# Altium integrated library Silicon Labs Audio.IntLib: 141 symbols (part 5 of 7)
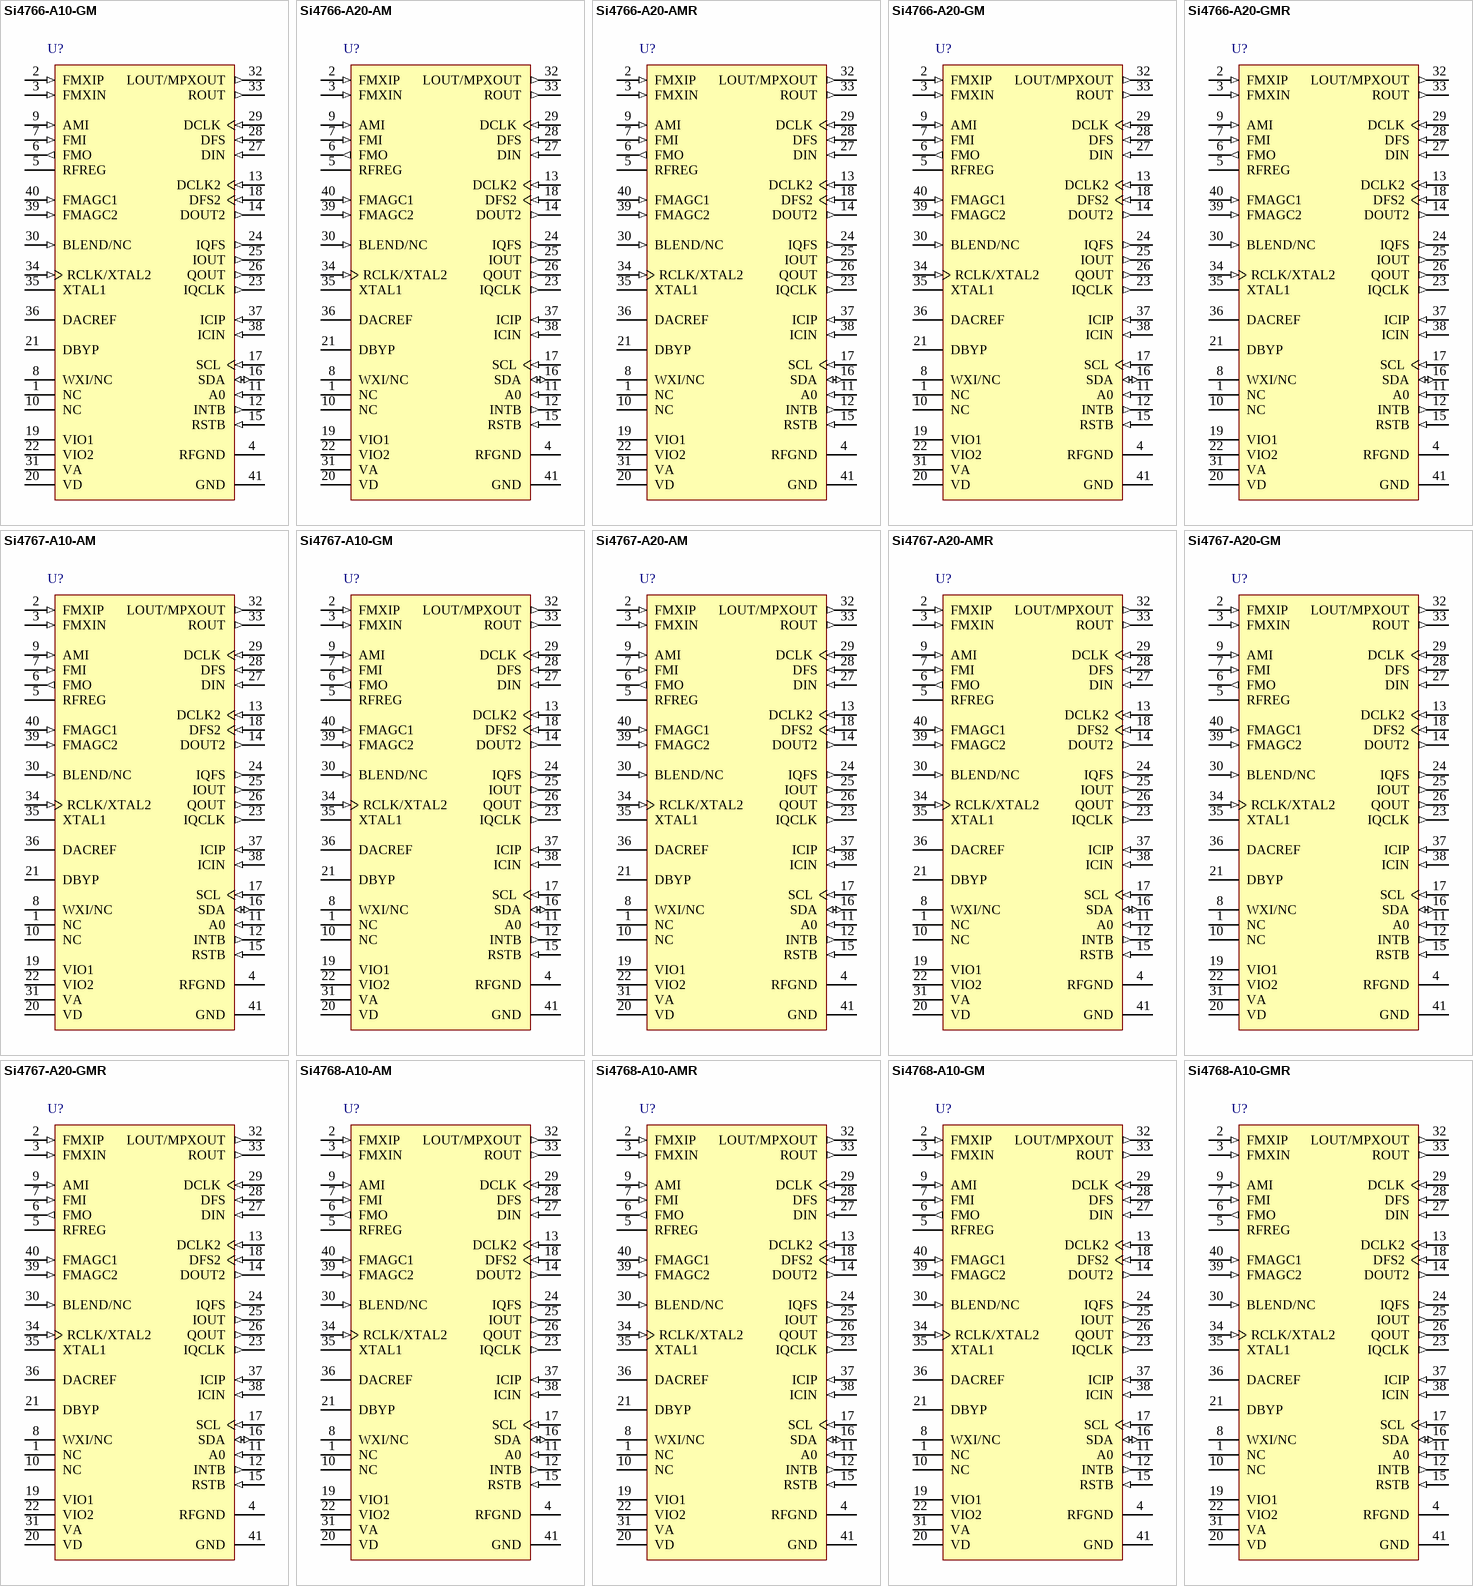
[diagram p11: symbols Si4766-A10-GM to Si4768-A10-GMR]

## Si4766-A20-GMR
designator U?
High-Performance Automotive AM / FM Radio Receiver and HD Radio Tuner, -40 to 85 degC, 40-pin QFN, Tape and Reel; Manufacturer: Silicon Labs; PartNumber: Si4766-A20-GMR; RDS Support: TRUE; Sub-Family: Automotive Tuners; PackageVersion: Rev. 1.3, 01/2012; PackageReference: QFN-40; PackageDescription: 40-Pin Quad-Flat No-Leads Package, Body 6 x 6 mm, Pitch 0.5 mm; Supplier 1: Digi-Key; Supplier Part Number 1: SI4766-A20-GMR-ND; Supplier 2: Mouser; Supplier Part Number 2: N/A; Packing: Tape and Reel; Mounting Technology: Surface Mount; Code_JEDEC: MO-220; Code_IPC: J-STD-020; ComponentLink1Description: Manufacturer URL; ComponentLink1URL: http://www.silabs.com/; ComponentLink2Description: Datasheet; ComponentLink2URL: http://www.silabs.com/Support Documents/TechnicalDocs/Si476x-short.pdf; ComponentLink3Description: Package Specification; ComponentLink3URL: http://www.silabs.com/Support%20Documents/TechnicalDocs/Si3452.pdf
footprint SLAB-QFN-40-4100x4100TP_A_N (QFN, 40-Leads, Body 6x6mm, Pitch 0.5mm, Thermal Pad 4.1X4.1mm, IPC Medium Density)
footprint SLAB-QFN-40-4100x4100TP_A_L (QFN, 40-Leads, Body 6x6mm, Pitch 0.5mm, Thermal Pad 4.1X4.1mm, IPC High Density)
footprint SLAB-QFN-40-4100x4100TP_A_M (QFN, 40-Leads, Body 6x6mm, Pitch 0.5mm, Thermal Pad 4.1X4.1mm, IPC Low Density)
pins: 1 NC, 2 FMXIP (in), 3 FMXIN (in), 4 RFGND (power), 5 RFREG (power), 6 FMO (out), 7 FMI (in), 8 WXI/NC, 9 AMI (in), 10 NC, 11 A0 (in), 12 INTB (out), 13 DCLK2 (in), 14 DOUT2 (out), 15 RSTB (in), 16 SDA (io), 17 SCL (in), 18 DFS2 (in), 19 VIO1 (power), 20 VD (power), 21 DBYP, 22 VIO2 (power), 23 IQCLK (out), 24 IQFS (out), 25 IOUT (out), 26 QOUT (out), 27 DIN (in), 28 DFS (in), 29 DCLK (in), 30 BLEND/NC (in), 31 VA (power), 32 LOUT/MPXOUT (out), 33 ROUT (out), 34 RCLK/XTAL2 (in), 35 XTAL1, 36 DACREF, 37 ICIP (in), 38 ICIN (in), 39 FMAGC2 (in), 40 FMAGC1 (in), 41 GND (power)

## Si4767-A10-AM
designator U?
High-Performance Automotive AM / FM Radio Receiver and HD Radio Tuner, -40 to 85 degC, 40-pin QFN, Tray; Manufacturer: Silicon Labs; PartNumber: Si4767-A10-AM; RDS Support: TRUE; Sub-Family: Automotive Tuners; PackageVersion: Rev. 1.3, 01/2012; PackageReference: QFN-40; PackageDescription: 40-Pin Quad-Flat No-Leads Package, Body 6 x 6 mm, Pitch 0.5 mm; Supplier 1: Digi-Key; Supplier Part Number 1: SI4767-A10-AM-ND; Supplier 2: Mouser; Supplier Part Number 2: N/A; Packing: Tray; Mounting Technology: Surface Mount; Code_JEDEC: MO-220; Code_IPC: J-STD-020; ComponentLink1Description: Manufacturer URL; ComponentLink1URL: http://www.silabs.com/; ComponentLink2Description: Datasheet; ComponentLink2URL: http://www.silabs.com/Support Documents/TechnicalDocs/Si476x-short.pdf; ComponentLink3Description: Package Specification; ComponentLink3URL: http://www.silabs.com/Support%20Documents/TechnicalDocs/Si3452.pdf
footprint SLAB-QFN-40-4100x4100TP_A_N (QFN, 40-Leads, Body 6x6mm, Pitch 0.5mm, Thermal Pad 4.1X4.1mm, IPC Medium Density)
footprint SLAB-QFN-40-4100x4100TP_A_L (QFN, 40-Leads, Body 6x6mm, Pitch 0.5mm, Thermal Pad 4.1X4.1mm, IPC High Density)
footprint SLAB-QFN-40-4100x4100TP_A_M (QFN, 40-Leads, Body 6x6mm, Pitch 0.5mm, Thermal Pad 4.1X4.1mm, IPC Low Density)
pins: 1 NC, 2 FMXIP (in), 3 FMXIN (in), 4 RFGND (power), 5 RFREG (power), 6 FMO (out), 7 FMI (in), 8 WXI/NC, 9 AMI (in), 10 NC, 11 A0 (in), 12 INTB (out), 13 DCLK2 (in), 14 DOUT2 (out), 15 RSTB (in), 16 SDA (io), 17 SCL (in), 18 DFS2 (in), 19 VIO1 (power), 20 VD (power), 21 DBYP, 22 VIO2 (power), 23 IQCLK (out), 24 IQFS (out), 25 IOUT (out), 26 QOUT (out), 27 DIN (in), 28 DFS (in), 29 DCLK (in), 30 BLEND/NC (in), 31 VA (power), 32 LOUT/MPXOUT (out), 33 ROUT (out), 34 RCLK/XTAL2 (in), 35 XTAL1, 36 DACREF, 37 ICIP (in), 38 ICIN (in), 39 FMAGC2 (in), 40 FMAGC1 (in), 41 GND (power)

## Si4767-A10-GM
designator U?
High-Performance Automotive AM / FM Radio Receiver and HD Radio Tuner, -40 to 85 degC, 40-pin QFN, Tray; Manufacturer: Silicon Labs; PartNumber: Si4767-A10-GM; RDS Support: TRUE; Sub-Family: Automotive Tuners; PackageVersion: Rev. 1.3, 01/2012; PackageReference: QFN-40; PackageDescription: 40-Pin Quad-Flat No-Leads Package, Body 6 x 6 mm, Pitch 0.5 mm; Supplier 1: Digi-Key; Supplier Part Number 1: SI4767-A10-GM-ND; Supplier 2: Mouser; Supplier Part Number 2: N/A; Packing: Tray; Mounting Technology: Surface Mount; Code_JEDEC: MO-220; Code_IPC: J-STD-020; ComponentLink1Description: Manufacturer URL; ComponentLink1URL: http://www.silabs.com/; ComponentLink2Description: Datasheet; ComponentLink2URL: http://www.silabs.com/Support Documents/TechnicalDocs/Si476x-short.pdf; ComponentLink3Description: Package Specification; ComponentLink3URL: http://www.silabs.com/Support%20Documents/TechnicalDocs/Si3452.pdf
footprint SLAB-QFN-40-4100x4100TP_A_N (QFN, 40-Leads, Body 6x6mm, Pitch 0.5mm, Thermal Pad 4.1X4.1mm, IPC Medium Density)
footprint SLAB-QFN-40-4100x4100TP_A_L (QFN, 40-Leads, Body 6x6mm, Pitch 0.5mm, Thermal Pad 4.1X4.1mm, IPC High Density)
footprint SLAB-QFN-40-4100x4100TP_A_M (QFN, 40-Leads, Body 6x6mm, Pitch 0.5mm, Thermal Pad 4.1X4.1mm, IPC Low Density)
pins: 1 NC, 2 FMXIP (in), 3 FMXIN (in), 4 RFGND (power), 5 RFREG (power), 6 FMO (out), 7 FMI (in), 8 WXI/NC, 9 AMI (in), 10 NC, 11 A0 (in), 12 INTB (out), 13 DCLK2 (in), 14 DOUT2 (out), 15 RSTB (in), 16 SDA (io), 17 SCL (in), 18 DFS2 (in), 19 VIO1 (power), 20 VD (power), 21 DBYP, 22 VIO2 (power), 23 IQCLK (out), 24 IQFS (out), 25 IOUT (out), 26 QOUT (out), 27 DIN (in), 28 DFS (in), 29 DCLK (in), 30 BLEND/NC (in), 31 VA (power), 32 LOUT/MPXOUT (out), 33 ROUT (out), 34 RCLK/XTAL2 (in), 35 XTAL1, 36 DACREF, 37 ICIP (in), 38 ICIN (in), 39 FMAGC2 (in), 40 FMAGC1 (in), 41 GND (power)

## Si4767-A20-AM
designator U?
High-Performance Automotive AM / FM Radio Receiver and HD Radio Tuner, -40 to 85 degC, 40-pin QFN, Tray; Manufacturer: Silicon Labs; PartNumber: Si4767-A20-AM; RDS Support: TRUE; Sub-Family: Automotive Tuners; PackageVersion: Rev. 1.3, 01/2012; PackageReference: QFN-40; PackageDescription: 40-Pin Quad-Flat No-Leads Package, Body 6 x 6 mm, Pitch 0.5 mm; Supplier 1: Digi-Key; Supplier Part Number 1: SI4767-A20-AM-ND; Supplier 2: Mouser; Supplier Part Number 2: N/A; Packing: Tray; Mounting Technology: Surface Mount; Code_JEDEC: MO-220; Code_IPC: J-STD-020; ComponentLink1Description: Manufacturer URL; ComponentLink1URL: http://www.silabs.com/; ComponentLink2Description: Datasheet; ComponentLink2URL: http://www.silabs.com/Support Documents/TechnicalDocs/Si476x-short.pdf; ComponentLink3Description: Package Specification; ComponentLink3URL: http://www.silabs.com/Support%20Documents/TechnicalDocs/Si3452.pdf
footprint SLAB-QFN-40-4100x4100TP_A_N (QFN, 40-Leads, Body 6x6mm, Pitch 0.5mm, Thermal Pad 4.1X4.1mm, IPC Medium Density)
footprint SLAB-QFN-40-4100x4100TP_A_L (QFN, 40-Leads, Body 6x6mm, Pitch 0.5mm, Thermal Pad 4.1X4.1mm, IPC High Density)
footprint SLAB-QFN-40-4100x4100TP_A_M (QFN, 40-Leads, Body 6x6mm, Pitch 0.5mm, Thermal Pad 4.1X4.1mm, IPC Low Density)
pins: 1 NC, 2 FMXIP (in), 3 FMXIN (in), 4 RFGND (power), 5 RFREG (power), 6 FMO (out), 7 FMI (in), 8 WXI/NC, 9 AMI (in), 10 NC, 11 A0 (in), 12 INTB (out), 13 DCLK2 (in), 14 DOUT2 (out), 15 RSTB (in), 16 SDA (io), 17 SCL (in), 18 DFS2 (in), 19 VIO1 (power), 20 VD (power), 21 DBYP, 22 VIO2 (power), 23 IQCLK (out), 24 IQFS (out), 25 IOUT (out), 26 QOUT (out), 27 DIN (in), 28 DFS (in), 29 DCLK (in), 30 BLEND/NC (in), 31 VA (power), 32 LOUT/MPXOUT (out), 33 ROUT (out), 34 RCLK/XTAL2 (in), 35 XTAL1, 36 DACREF, 37 ICIP (in), 38 ICIN (in), 39 FMAGC2 (in), 40 FMAGC1 (in), 41 GND (power)

## Si4767-A20-AMR
designator U?
High-Performance Automotive AM / FM Radio Receiver and HD Radio Tuner, -40 to 85 degC, 40-pin QFN, Tape and Reel; Manufacturer: Silicon Labs; PartNumber: Si4767-A20-AMR; RDS Support: TRUE; Sub-Family: Automotive Tuners; PackageVersion: Rev. 1.3, 01/2012; PackageReference: QFN-40; PackageDescription: 40-Pin Quad-Flat No-Leads Package, Body 6 x 6 mm, Pitch 0.5 mm; Supplier 1: Digi-Key; Supplier Part Number 1: SI4767-A20-AMR-ND; Supplier 2: Mouser; Supplier Part Number 2: N/A; Packing: Tape and Reel; Mounting Technology: Surface Mount; Code_JEDEC: MO-220; Code_IPC: J-STD-020; ComponentLink1Description: Manufacturer URL; ComponentLink1URL: http://www.silabs.com/; ComponentLink2Description: Datasheet; ComponentLink2URL: http://www.silabs.com/Support Documents/TechnicalDocs/Si476x-short.pdf; ComponentLink3Description: Package Specification; ComponentLink3URL: http://www.silabs.com/Support%20Documents/TechnicalDocs/Si3452.pdf
footprint SLAB-QFN-40-4100x4100TP_A_N (QFN, 40-Leads, Body 6x6mm, Pitch 0.5mm, Thermal Pad 4.1X4.1mm, IPC Medium Density)
footprint SLAB-QFN-40-4100x4100TP_A_L (QFN, 40-Leads, Body 6x6mm, Pitch 0.5mm, Thermal Pad 4.1X4.1mm, IPC High Density)
footprint SLAB-QFN-40-4100x4100TP_A_M (QFN, 40-Leads, Body 6x6mm, Pitch 0.5mm, Thermal Pad 4.1X4.1mm, IPC Low Density)
pins: 1 NC, 2 FMXIP (in), 3 FMXIN (in), 4 RFGND (power), 5 RFREG (power), 6 FMO (out), 7 FMI (in), 8 WXI/NC, 9 AMI (in), 10 NC, 11 A0 (in), 12 INTB (out), 13 DCLK2 (in), 14 DOUT2 (out), 15 RSTB (in), 16 SDA (io), 17 SCL (in), 18 DFS2 (in), 19 VIO1 (power), 20 VD (power), 21 DBYP, 22 VIO2 (power), 23 IQCLK (out), 24 IQFS (out), 25 IOUT (out), 26 QOUT (out), 27 DIN (in), 28 DFS (in), 29 DCLK (in), 30 BLEND/NC (in), 31 VA (power), 32 LOUT/MPXOUT (out), 33 ROUT (out), 34 RCLK/XTAL2 (in), 35 XTAL1, 36 DACREF, 37 ICIP (in), 38 ICIN (in), 39 FMAGC2 (in), 40 FMAGC1 (in), 41 GND (power)

## Si4767-A20-GM
designator U?
High-Performance Automotive AM / FM Radio Receiver and HD Radio Tuner, -40 to 85 degC, 40-pin QFN, Tray; Manufacturer: Silicon Labs; PartNumber: Si4767-A20-GM; RDS Support: TRUE; Sub-Family: Automotive Tuners; PackageVersion: Rev. 1.3, 01/2012; PackageReference: QFN-40; PackageDescription: 40-Pin Quad-Flat No-Leads Package, Body 6 x 6 mm, Pitch 0.5 mm; Supplier 1: Digi-Key; Supplier Part Number 1: SI4767-A20-GM-ND; Supplier 2: Mouser; Supplier Part Number 2: N/A; Packing: Tray; Mounting Technology: Surface Mount; Code_JEDEC: MO-220; Code_IPC: J-STD-020; ComponentLink1Description: Manufacturer URL; ComponentLink1URL: http://www.silabs.com/; ComponentLink2Description: Datasheet; ComponentLink2URL: http://www.silabs.com/Support Documents/TechnicalDocs/Si476x-short.pdf; ComponentLink3Description: Package Specification; ComponentLink3URL: http://www.silabs.com/Support%20Documents/TechnicalDocs/Si3452.pdf
footprint SLAB-QFN-40-4100x4100TP_A_N (QFN, 40-Leads, Body 6x6mm, Pitch 0.5mm, Thermal Pad 4.1X4.1mm, IPC Medium Density)
footprint SLAB-QFN-40-4100x4100TP_A_L (QFN, 40-Leads, Body 6x6mm, Pitch 0.5mm, Thermal Pad 4.1X4.1mm, IPC High Density)
footprint SLAB-QFN-40-4100x4100TP_A_M (QFN, 40-Leads, Body 6x6mm, Pitch 0.5mm, Thermal Pad 4.1X4.1mm, IPC Low Density)
pins: 1 NC, 2 FMXIP (in), 3 FMXIN (in), 4 RFGND (power), 5 RFREG (power), 6 FMO (out), 7 FMI (in), 8 WXI/NC, 9 AMI (in), 10 NC, 11 A0 (in), 12 INTB (out), 13 DCLK2 (in), 14 DOUT2 (out), 15 RSTB (in), 16 SDA (io), 17 SCL (in), 18 DFS2 (in), 19 VIO1 (power), 20 VD (power), 21 DBYP, 22 VIO2 (power), 23 IQCLK (out), 24 IQFS (out), 25 IOUT (out), 26 QOUT (out), 27 DIN (in), 28 DFS (in), 29 DCLK (in), 30 BLEND/NC (in), 31 VA (power), 32 LOUT/MPXOUT (out), 33 ROUT (out), 34 RCLK/XTAL2 (in), 35 XTAL1, 36 DACREF, 37 ICIP (in), 38 ICIN (in), 39 FMAGC2 (in), 40 FMAGC1 (in), 41 GND (power)

## Si4767-A20-GMR
designator U?
High-Performance Automotive AM / FM Radio Receiver and HD Radio Tuner, -40 to 85 degC, 40-pin QFN, Tape and Reel; Manufacturer: Silicon Labs; PartNumber: Si4767-A20-GMR; RDS Support: TRUE; Sub-Family: Automotive Tuners; PackageVersion: Rev. 1.3, 01/2012; PackageReference: QFN-40; PackageDescription: 40-Pin Quad-Flat No-Leads Package, Body 6 x 6 mm, Pitch 0.5 mm; Supplier 1: Digi-Key; Supplier Part Number 1: SI4767-A20-GMR-ND; Supplier 2: Mouser; Supplier Part Number 2: N/A; Packing: Tape and Reel; Mounting Technology: Surface Mount; Code_JEDEC: MO-220; Code_IPC: J-STD-020; ComponentLink1Description: Manufacturer URL; ComponentLink1URL: http://www.silabs.com/; ComponentLink2Description: Datasheet; ComponentLink2URL: http://www.silabs.com/Support Documents/TechnicalDocs/Si476x-short.pdf; ComponentLink3Description: Package Specification; ComponentLink3URL: http://www.silabs.com/Support%20Documents/TechnicalDocs/Si3452.pdf
footprint SLAB-QFN-40-4100x4100TP_A_N (QFN, 40-Leads, Body 6x6mm, Pitch 0.5mm, Thermal Pad 4.1X4.1mm, IPC Medium Density)
footprint SLAB-QFN-40-4100x4100TP_A_L (QFN, 40-Leads, Body 6x6mm, Pitch 0.5mm, Thermal Pad 4.1X4.1mm, IPC High Density)
footprint SLAB-QFN-40-4100x4100TP_A_M (QFN, 40-Leads, Body 6x6mm, Pitch 0.5mm, Thermal Pad 4.1X4.1mm, IPC Low Density)
pins: 1 NC, 2 FMXIP (in), 3 FMXIN (in), 4 RFGND (power), 5 RFREG (power), 6 FMO (out), 7 FMI (in), 8 WXI/NC, 9 AMI (in), 10 NC, 11 A0 (in), 12 INTB (out), 13 DCLK2 (in), 14 DOUT2 (out), 15 RSTB (in), 16 SDA (io), 17 SCL (in), 18 DFS2 (in), 19 VIO1 (power), 20 VD (power), 21 DBYP, 22 VIO2 (power), 23 IQCLK (out), 24 IQFS (out), 25 IOUT (out), 26 QOUT (out), 27 DIN (in), 28 DFS (in), 29 DCLK (in), 30 BLEND/NC (in), 31 VA (power), 32 LOUT/MPXOUT (out), 33 ROUT (out), 34 RCLK/XTAL2 (in), 35 XTAL1, 36 DACREF, 37 ICIP (in), 38 ICIN (in), 39 FMAGC2 (in), 40 FMAGC1 (in), 41 GND (power)

## Si4768-A10-AM
designator U?
High-Performance Automotive AM / FM Radio Receiver and HD Radio Tuner, -40 to 85 degC, 40-pin QFN, Tray; Manufacturer: Silicon Labs; PartNumber: Si4768-A10-AM; RDS Support: TRUE; Sub-Family: Automotive Tuners; PackageVersion: Rev. 1.3, 01/2012; PackageReference: QFN-40; PackageDescription: 40-Pin Quad-Flat No-Leads Package, Body 6 x 6 mm, Pitch 0.5 mm; Supplier 1: Digi-Key; Supplier Part Number 1: SI4768-A10-AM-ND; Supplier 2: Mouser; Supplier Part Number 2: N/A; Packing: Tray; Mounting Technology: Surface Mount; Code_JEDEC: MO-220; Code_IPC: J-STD-020; ComponentLink1Description: Manufacturer URL; ComponentLink1URL: http://www.silabs.com/; ComponentLink2Description: Datasheet; ComponentLink2URL: http://www.silabs.com/Support Documents/TechnicalDocs/Si476x-short.pdf; ComponentLink3Description: Package Specification; ComponentLink3URL: http://www.silabs.com/Support%20Documents/TechnicalDocs/Si3452.pdf
footprint SLAB-QFN-40-4100x4100TP_A_N (QFN, 40-Leads, Body 6x6mm, Pitch 0.5mm, Thermal Pad 4.1X4.1mm, IPC Medium Density)
footprint SLAB-QFN-40-4100x4100TP_A_L (QFN, 40-Leads, Body 6x6mm, Pitch 0.5mm, Thermal Pad 4.1X4.1mm, IPC High Density)
footprint SLAB-QFN-40-4100x4100TP_A_M (QFN, 40-Leads, Body 6x6mm, Pitch 0.5mm, Thermal Pad 4.1X4.1mm, IPC Low Density)
pins: 1 NC, 2 FMXIP (in), 3 FMXIN (in), 4 RFGND (power), 5 RFREG (power), 6 FMO (out), 7 FMI (in), 8 WXI/NC, 9 AMI (in), 10 NC, 11 A0 (in), 12 INTB (out), 13 DCLK2 (in), 14 DOUT2 (out), 15 RSTB (in), 16 SDA (io), 17 SCL (in), 18 DFS2 (in), 19 VIO1 (power), 20 VD (power), 21 DBYP, 22 VIO2 (power), 23 IQCLK (out), 24 IQFS (out), 25 IOUT (out), 26 QOUT (out), 27 DIN (in), 28 DFS (in), 29 DCLK (in), 30 BLEND/NC (in), 31 VA (power), 32 LOUT/MPXOUT (out), 33 ROUT (out), 34 RCLK/XTAL2 (in), 35 XTAL1, 36 DACREF, 37 ICIP (in), 38 ICIN (in), 39 FMAGC2 (in), 40 FMAGC1 (in), 41 GND (power)

## Si4768-A10-AMR
designator U?
High-Performance Automotive AM / FM Radio Receiver and HD Radio Tuner, -40 to 85 degC, 40-pin QFN, Tape and Reel; Manufacturer: Silicon Labs; PartNumber: Si4768-A10-AMR; RDS Support: TRUE; Sub-Family: Automotive Tuners; PackageVersion: Rev. 1.3, 01/2012; PackageReference: QFN-40; PackageDescription: 40-Pin Quad-Flat No-Leads Package, Body 6 x 6 mm, Pitch 0.5 mm; Supplier 1: Digi-Key; Supplier Part Number 1: SI4768-A10-AMR-ND; Supplier 2: Mouser; Supplier Part Number 2: N/A; Packing: Tape and Reel; Mounting Technology: Surface Mount; Code_JEDEC: MO-220; Code_IPC: J-STD-020; ComponentLink1Description: Manufacturer URL; ComponentLink1URL: http://www.silabs.com/; ComponentLink2Description: Datasheet; ComponentLink2URL: http://www.silabs.com/Support Documents/TechnicalDocs/Si476x-short.pdf; ComponentLink3Description: Package Specification; ComponentLink3URL: http://www.silabs.com/Support%20Documents/TechnicalDocs/Si3452.pdf
footprint SLAB-QFN-40-4100x4100TP_A_N (QFN, 40-Leads, Body 6x6mm, Pitch 0.5mm, Thermal Pad 4.1X4.1mm, IPC Medium Density)
footprint SLAB-QFN-40-4100x4100TP_A_L (QFN, 40-Leads, Body 6x6mm, Pitch 0.5mm, Thermal Pad 4.1X4.1mm, IPC High Density)
footprint SLAB-QFN-40-4100x4100TP_A_M (QFN, 40-Leads, Body 6x6mm, Pitch 0.5mm, Thermal Pad 4.1X4.1mm, IPC Low Density)
pins: 1 NC, 2 FMXIP (in), 3 FMXIN (in), 4 RFGND (power), 5 RFREG (power), 6 FMO (out), 7 FMI (in), 8 WXI/NC, 9 AMI (in), 10 NC, 11 A0 (in), 12 INTB (out), 13 DCLK2 (in), 14 DOUT2 (out), 15 RSTB (in), 16 SDA (io), 17 SCL (in), 18 DFS2 (in), 19 VIO1 (power), 20 VD (power), 21 DBYP, 22 VIO2 (power), 23 IQCLK (out), 24 IQFS (out), 25 IOUT (out), 26 QOUT (out), 27 DIN (in), 28 DFS (in), 29 DCLK (in), 30 BLEND/NC (in), 31 VA (power), 32 LOUT/MPXOUT (out), 33 ROUT (out), 34 RCLK/XTAL2 (in), 35 XTAL1, 36 DACREF, 37 ICIP (in), 38 ICIN (in), 39 FMAGC2 (in), 40 FMAGC1 (in), 41 GND (power)

## Si4768-A10-GM
designator U?
High-Performance Automotive AM / FM Radio Receiver and HD Radio Tuner, -40 to 85 degC, 40-pin QFN, Tray; Manufacturer: Silicon Labs; PartNumber: Si4768-A10-GM; RDS Support: TRUE; Sub-Family: Automotive Tuners; PackageVersion: Rev. 1.3, 01/2012; PackageReference: QFN-40; PackageDescription: 40-Pin Quad-Flat No-Leads Package, Body 6 x 6 mm, Pitch 0.5 mm; Supplier 1: Digi-Key; Supplier Part Number 1: SI4768-A10-GM-ND; Supplier 2: Mouser; Supplier Part Number 2: N/A; Packing: Tray; Mounting Technology: Surface Mount; Code_JEDEC: MO-220; Code_IPC: J-STD-020; ComponentLink1Description: Manufacturer URL; ComponentLink1URL: http://www.silabs.com/; ComponentLink2Description: Datasheet; ComponentLink2URL: http://www.silabs.com/Support Documents/TechnicalDocs/Si476x-short.pdf; ComponentLink3Description: Package Specification; ComponentLink3URL: http://www.silabs.com/Support%20Documents/TechnicalDocs/Si3452.pdf
footprint SLAB-QFN-40-4100x4100TP_A_N (QFN, 40-Leads, Body 6x6mm, Pitch 0.5mm, Thermal Pad 4.1X4.1mm, IPC Medium Density)
footprint SLAB-QFN-40-4100x4100TP_A_L (QFN, 40-Leads, Body 6x6mm, Pitch 0.5mm, Thermal Pad 4.1X4.1mm, IPC High Density)
footprint SLAB-QFN-40-4100x4100TP_A_M (QFN, 40-Leads, Body 6x6mm, Pitch 0.5mm, Thermal Pad 4.1X4.1mm, IPC Low Density)
pins: 1 NC, 2 FMXIP (in), 3 FMXIN (in), 4 RFGND (power), 5 RFREG (power), 6 FMO (out), 7 FMI (in), 8 WXI/NC, 9 AMI (in), 10 NC, 11 A0 (in), 12 INTB (out), 13 DCLK2 (in), 14 DOUT2 (out), 15 RSTB (in), 16 SDA (io), 17 SCL (in), 18 DFS2 (in), 19 VIO1 (power), 20 VD (power), 21 DBYP, 22 VIO2 (power), 23 IQCLK (out), 24 IQFS (out), 25 IOUT (out), 26 QOUT (out), 27 DIN (in), 28 DFS (in), 29 DCLK (in), 30 BLEND/NC (in), 31 VA (power), 32 LOUT/MPXOUT (out), 33 ROUT (out), 34 RCLK/XTAL2 (in), 35 XTAL1, 36 DACREF, 37 ICIP (in), 38 ICIN (in), 39 FMAGC2 (in), 40 FMAGC1 (in), 41 GND (power)

## Si4768-A10-GMR
designator U?
High-Performance Automotive AM / FM Radio Receiver and HD Radio Tuner, -40 to 85 degC, 40-pin QFN, Tape and Reel; Manufacturer: Silicon Labs; PartNumber: Si4768-A10-GMR; RDS Support: TRUE; Sub-Family: Automotive Tuners; PackageVersion: Rev. 1.3, 01/2012; PackageReference: QFN-40; PackageDescription: 40-Pin Quad-Flat No-Leads Package, Body 6 x 6 mm, Pitch 0.5 mm; Supplier 1: Digi-Key; Supplier Part Number 1: SI4768-A10-GMR-ND; Supplier 2: Mouser; Supplier Part Number 2: N/A; Packing: Tape and Reel; Mounting Technology: Surface Mount; Code_JEDEC: MO-220; Code_IPC: J-STD-020; ComponentLink1Description: Manufacturer URL; ComponentLink1URL: http://www.silabs.com/; ComponentLink2Description: Datasheet; ComponentLink2URL: http://www.silabs.com/Support Documents/TechnicalDocs/Si476x-short.pdf; ComponentLink3Description: Package Specification; ComponentLink3URL: http://www.silabs.com/Support%20Documents/TechnicalDocs/Si3452.pdf
footprint SLAB-QFN-40-4100x4100TP_A_N (QFN, 40-Leads, Body 6x6mm, Pitch 0.5mm, Thermal Pad 4.1X4.1mm, IPC Medium Density)
footprint SLAB-QFN-40-4100x4100TP_A_L (QFN, 40-Leads, Body 6x6mm, Pitch 0.5mm, Thermal Pad 4.1X4.1mm, IPC High Density)
footprint SLAB-QFN-40-4100x4100TP_A_M (QFN, 40-Leads, Body 6x6mm, Pitch 0.5mm, Thermal Pad 4.1X4.1mm, IPC Low Density)
pins: 1 NC, 2 FMXIP (in), 3 FMXIN (in), 4 RFGND (power), 5 RFREG (power), 6 FMO (out), 7 FMI (in), 8 WXI/NC, 9 AMI (in), 10 NC, 11 A0 (in), 12 INTB (out), 13 DCLK2 (in), 14 DOUT2 (out), 15 RSTB (in), 16 SDA (io), 17 SCL (in), 18 DFS2 (in), 19 VIO1 (power), 20 VD (power), 21 DBYP, 22 VIO2 (power), 23 IQCLK (out), 24 IQFS (out), 25 IOUT (out), 26 QOUT (out), 27 DIN (in), 28 DFS (in), 29 DCLK (in), 30 BLEND/NC (in), 31 VA (power), 32 LOUT/MPXOUT (out), 33 ROUT (out), 34 RCLK/XTAL2 (in), 35 XTAL1, 36 DACREF, 37 ICIP (in), 38 ICIN (in), 39 FMAGC2 (in), 40 FMAGC1 (in), 41 GND (power)

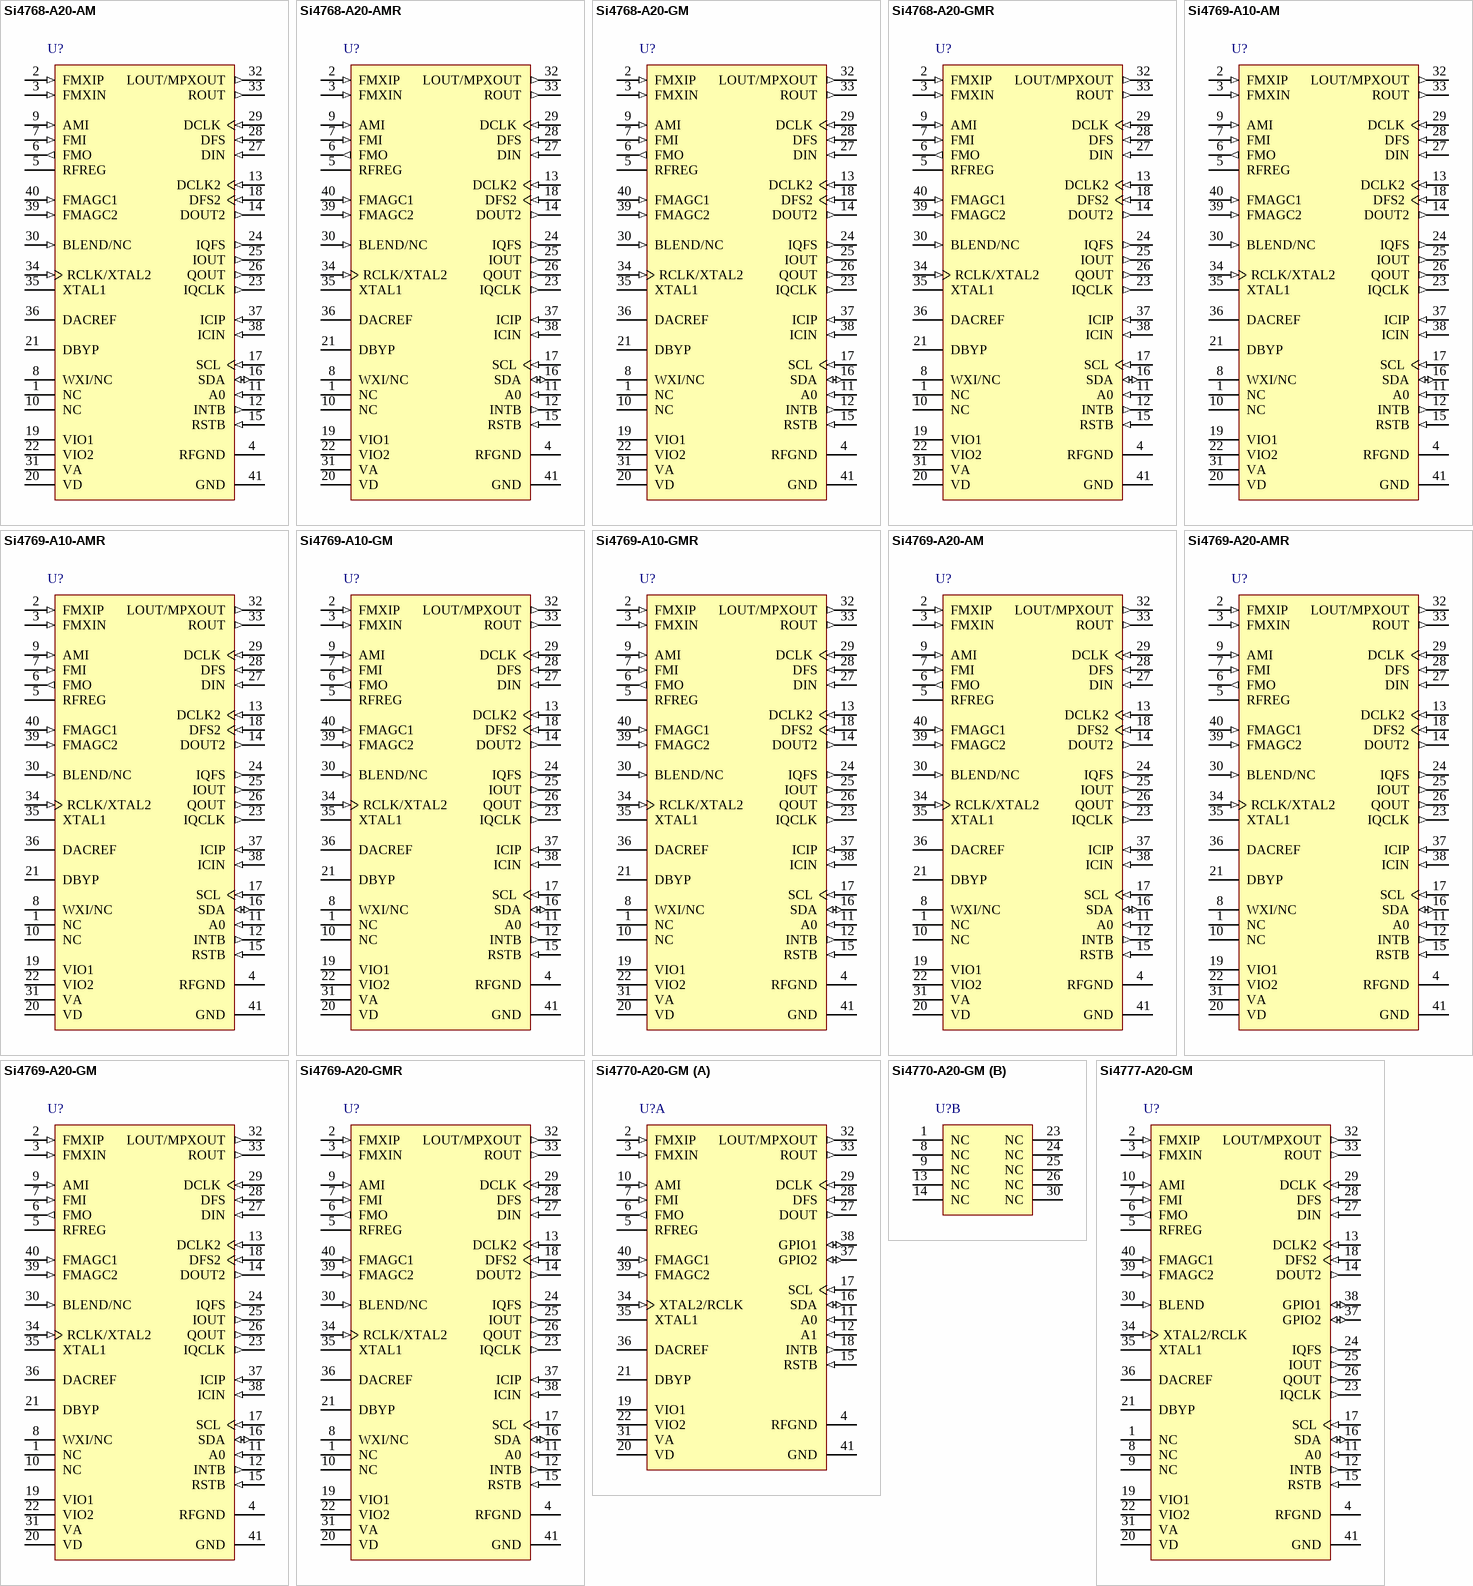
[diagram p6: symbols Si4768-A20-AM to Si4777-A20-GM]

## Si4768-A20-AM
designator U?
High-Performance Automotive AM / FM Radio Receiver and HD Radio Tuner, -40 to 85 degC, 40-pin QFN, Tray; Manufacturer: Silicon Labs; PartNumber: Si4768-A20-AM; RDS Support: TRUE; Sub-Family: Automotive Tuners; PackageVersion: Rev. 1.3, 01/2012; PackageReference: QFN-40; PackageDescription: 40-Pin Quad-Flat No-Leads Package, Body 6 x 6 mm, Pitch 0.5 mm; Supplier 1: Digi-Key; Supplier Part Number 1: SI4768-A20-AM-ND; Supplier 2: Mouser; Supplier Part Number 2: N/A; Packing: Tray; Mounting Technology: Surface Mount; Code_JEDEC: MO-220; Code_IPC: J-STD-020; ComponentLink1Description: Manufacturer URL; ComponentLink1URL: http://www.silabs.com/; ComponentLink2Description: Datasheet; ComponentLink2URL: http://www.silabs.com/Support Documents/TechnicalDocs/Si476x-short.pdf; ComponentLink3Description: Package Specification; ComponentLink3URL: http://www.silabs.com/Support%20Documents/TechnicalDocs/Si3452.pdf
footprint SLAB-QFN-40-4100x4100TP_A_N (QFN, 40-Leads, Body 6x6mm, Pitch 0.5mm, Thermal Pad 4.1X4.1mm, IPC Medium Density)
footprint SLAB-QFN-40-4100x4100TP_A_L (QFN, 40-Leads, Body 6x6mm, Pitch 0.5mm, Thermal Pad 4.1X4.1mm, IPC High Density)
footprint SLAB-QFN-40-4100x4100TP_A_M (QFN, 40-Leads, Body 6x6mm, Pitch 0.5mm, Thermal Pad 4.1X4.1mm, IPC Low Density)
pins: 1 NC, 2 FMXIP (in), 3 FMXIN (in), 4 RFGND (power), 5 RFREG (power), 6 FMO (out), 7 FMI (in), 8 WXI/NC, 9 AMI (in), 10 NC, 11 A0 (in), 12 INTB (out), 13 DCLK2 (in), 14 DOUT2 (out), 15 RSTB (in), 16 SDA (io), 17 SCL (in), 18 DFS2 (in), 19 VIO1 (power), 20 VD (power), 21 DBYP, 22 VIO2 (power), 23 IQCLK (out), 24 IQFS (out), 25 IOUT (out), 26 QOUT (out), 27 DIN (in), 28 DFS (in), 29 DCLK (in), 30 BLEND/NC (in), 31 VA (power), 32 LOUT/MPXOUT (out), 33 ROUT (out), 34 RCLK/XTAL2 (in), 35 XTAL1, 36 DACREF, 37 ICIP (in), 38 ICIN (in), 39 FMAGC2 (in), 40 FMAGC1 (in), 41 GND (power)

## Si4768-A20-AMR
designator U?
High-Performance Automotive AM / FM Radio Receiver and HD Radio Tuner, -40 to 85 degC, 40-pin QFN, Tape and Reel; Manufacturer: Silicon Labs; PartNumber: Si4768-A20-AMR; RDS Support: TRUE; Sub-Family: Automotive Tuners; PackageVersion: Rev. 1.3, 01/2012; PackageReference: QFN-40; PackageDescription: 40-Pin Quad-Flat No-Leads Package, Body 6 x 6 mm, Pitch 0.5 mm; Supplier 1: Digi-Key; Supplier Part Number 1: SI4768-A20-AMR-ND; Packing: Tape and Reel; Mounting Technology: Surface Mount; Code_JEDEC: MO-220; Code_IPC: J-STD-020; ComponentLink1Description: Manufacturer URL; ComponentLink1URL: http://www.silabs.com/; ComponentLink2Description: Datasheet; ComponentLink2URL: http://www.silabs.com/Support Documents/TechnicalDocs/Si476x-short.pdf; ComponentLink3Description: Package Specification; ComponentLink3URL: http://www.silabs.com/Support%20Documents/TechnicalDocs/Si3452.pdf
footprint SLAB-QFN-40-4100x4100TP_A_N (QFN, 40-Leads, Body 6x6mm, Pitch 0.5mm, Thermal Pad 4.1X4.1mm, IPC Medium Density)
footprint SLAB-QFN-40-4100x4100TP_A_L (QFN, 40-Leads, Body 6x6mm, Pitch 0.5mm, Thermal Pad 4.1X4.1mm, IPC High Density)
footprint SLAB-QFN-40-4100x4100TP_A_M (QFN, 40-Leads, Body 6x6mm, Pitch 0.5mm, Thermal Pad 4.1X4.1mm, IPC Low Density)
pins: 1 NC, 2 FMXIP (in), 3 FMXIN (in), 4 RFGND (power), 5 RFREG (power), 6 FMO (out), 7 FMI (in), 8 WXI/NC, 9 AMI (in), 10 NC, 11 A0 (in), 12 INTB (out), 13 DCLK2 (in), 14 DOUT2 (out), 15 RSTB (in), 16 SDA (io), 17 SCL (in), 18 DFS2 (in), 19 VIO1 (power), 20 VD (power), 21 DBYP, 22 VIO2 (power), 23 IQCLK (out), 24 IQFS (out), 25 IOUT (out), 26 QOUT (out), 27 DIN (in), 28 DFS (in), 29 DCLK (in), 30 BLEND/NC (in), 31 VA (power), 32 LOUT/MPXOUT (out), 33 ROUT (out), 34 RCLK/XTAL2 (in), 35 XTAL1, 36 DACREF, 37 ICIP (in), 38 ICIN (in), 39 FMAGC2 (in), 40 FMAGC1 (in), 41 GND (power)

## Si4768-A20-GM
designator U?
High-Performance Automotive AM / FM Radio Receiver and HD Radio Tuner, -40 to 85 degC, 40-pin QFN, Tray; Manufacturer: Silicon Labs; PartNumber: Si4768-A20-GM; RDS Support: TRUE; Sub-Family: Automotive Tuners; PackageVersion: Rev. 1.3, 01/2012; PackageReference: QFN-40; PackageDescription: 40-Pin Quad-Flat No-Leads Package, Body 6 x 6 mm, Pitch 0.5 mm; Supplier 1: Digi-Key; Supplier Part Number 1: SI4768-A20-GM-ND; Supplier 2: Mouser; Supplier Part Number 2: N/A; Packing: Tray; Mounting Technology: Surface Mount; Code_JEDEC: MO-220; Code_IPC: J-STD-020; ComponentLink1Description: Manufacturer URL; ComponentLink1URL: http://www.silabs.com/; ComponentLink2Description: Datasheet; ComponentLink2URL: http://www.silabs.com/Support Documents/TechnicalDocs/Si476x-short.pdf; ComponentLink3Description: Package Specification; ComponentLink3URL: http://www.silabs.com/Support%20Documents/TechnicalDocs/Si3452.pdf
footprint SLAB-QFN-40-4100x4100TP_A_N (QFN, 40-Leads, Body 6x6mm, Pitch 0.5mm, Thermal Pad 4.1X4.1mm, IPC Medium Density)
footprint SLAB-QFN-40-4100x4100TP_A_L (QFN, 40-Leads, Body 6x6mm, Pitch 0.5mm, Thermal Pad 4.1X4.1mm, IPC High Density)
footprint SLAB-QFN-40-4100x4100TP_A_M (QFN, 40-Leads, Body 6x6mm, Pitch 0.5mm, Thermal Pad 4.1X4.1mm, IPC Low Density)
pins: 1 NC, 2 FMXIP (in), 3 FMXIN (in), 4 RFGND (power), 5 RFREG (power), 6 FMO (out), 7 FMI (in), 8 WXI/NC, 9 AMI (in), 10 NC, 11 A0 (in), 12 INTB (out), 13 DCLK2 (in), 14 DOUT2 (out), 15 RSTB (in), 16 SDA (io), 17 SCL (in), 18 DFS2 (in), 19 VIO1 (power), 20 VD (power), 21 DBYP, 22 VIO2 (power), 23 IQCLK (out), 24 IQFS (out), 25 IOUT (out), 26 QOUT (out), 27 DIN (in), 28 DFS (in), 29 DCLK (in), 30 BLEND/NC (in), 31 VA (power), 32 LOUT/MPXOUT (out), 33 ROUT (out), 34 RCLK/XTAL2 (in), 35 XTAL1, 36 DACREF, 37 ICIP (in), 38 ICIN (in), 39 FMAGC2 (in), 40 FMAGC1 (in), 41 GND (power)

## Si4768-A20-GMR
designator U?
High-Performance Automotive AM / FM Radio Receiver and HD Radio Tuner, -40 to 85 degC, 40-pin QFN, Tape and Reel; Manufacturer: Silicon Labs; PartNumber: Si4768-A20-GMR; RDS Support: TRUE; Sub-Family: Automotive Tuners; PackageVersion: Rev. 1.3, 01/2012; PackageReference: QFN-40; PackageDescription: 40-Pin Quad-Flat No-Leads Package, Body 6 x 6 mm, Pitch 0.5 mm; Supplier 1: Digi-Key; Supplier Part Number 1: SI4768-A20-GMR-ND; Packing: Tape and Reel; Mounting Technology: Surface Mount; Code_JEDEC: MO-220; Code_IPC: J-STD-020; ComponentLink1Description: Manufacturer URL; ComponentLink1URL: http://www.silabs.com/; ComponentLink2Description: Datasheet; ComponentLink2URL: http://www.silabs.com/Support Documents/TechnicalDocs/Si476x-short.pdf; ComponentLink3Description: Package Specification; ComponentLink3URL: http://www.silabs.com/Support%20Documents/TechnicalDocs/Si3452.pdf
footprint SLAB-QFN-40-4100x4100TP_A_N (QFN, 40-Leads, Body 6x6mm, Pitch 0.5mm, Thermal Pad 4.1X4.1mm, IPC Medium Density)
footprint SLAB-QFN-40-4100x4100TP_A_L (QFN, 40-Leads, Body 6x6mm, Pitch 0.5mm, Thermal Pad 4.1X4.1mm, IPC High Density)
footprint SLAB-QFN-40-4100x4100TP_A_M (QFN, 40-Leads, Body 6x6mm, Pitch 0.5mm, Thermal Pad 4.1X4.1mm, IPC Low Density)
pins: 1 NC, 2 FMXIP (in), 3 FMXIN (in), 4 RFGND (power), 5 RFREG (power), 6 FMO (out), 7 FMI (in), 8 WXI/NC, 9 AMI (in), 10 NC, 11 A0 (in), 12 INTB (out), 13 DCLK2 (in), 14 DOUT2 (out), 15 RSTB (in), 16 SDA (io), 17 SCL (in), 18 DFS2 (in), 19 VIO1 (power), 20 VD (power), 21 DBYP, 22 VIO2 (power), 23 IQCLK (out), 24 IQFS (out), 25 IOUT (out), 26 QOUT (out), 27 DIN (in), 28 DFS (in), 29 DCLK (in), 30 BLEND/NC (in), 31 VA (power), 32 LOUT/MPXOUT (out), 33 ROUT (out), 34 RCLK/XTAL2 (in), 35 XTAL1, 36 DACREF, 37 ICIP (in), 38 ICIN (in), 39 FMAGC2 (in), 40 FMAGC1 (in), 41 GND (power)

## Si4769-A10-AM
designator U?
High-Performance Automotive AM / FM Radio Receiver and HD Radio Tuner, -40 to 85 degC, 40-pin QFN, Tray; Manufacturer: Silicon Labs; PartNumber: Si4769-A10-AM; RDS Support: TRUE; Sub-Family: Automotive Tuners; PackageVersion: Rev. 1.3, 01/2012; PackageReference: QFN-40; PackageDescription: 40-Pin Quad-Flat No-Leads Package, Body 6 x 6 mm, Pitch 0.5 mm; Supplier 1: Digi-Key; Supplier Part Number 1: SI4769-A10-AM-ND; Supplier 2: Mouser; Supplier Part Number 2: N/A; Packing: Tray; Mounting Technology: Surface Mount; Code_JEDEC: MO-220; Code_IPC: J-STD-020; ComponentLink1Description: Manufacturer URL; ComponentLink1URL: http://www.silabs.com/; ComponentLink2Description: Datasheet; ComponentLink2URL: http://www.silabs.com/Support Documents/TechnicalDocs/Si476x-short.pdf; ComponentLink3Description: Package Specification; ComponentLink3URL: http://www.silabs.com/Support%20Documents/TechnicalDocs/Si3452.pdf
footprint SLAB-QFN-40-4100x4100TP_A_N (QFN, 40-Leads, Body 6x6mm, Pitch 0.5mm, Thermal Pad 4.1X4.1mm, IPC Medium Density)
footprint SLAB-QFN-40-4100x4100TP_A_L (QFN, 40-Leads, Body 6x6mm, Pitch 0.5mm, Thermal Pad 4.1X4.1mm, IPC High Density)
footprint SLAB-QFN-40-4100x4100TP_A_M (QFN, 40-Leads, Body 6x6mm, Pitch 0.5mm, Thermal Pad 4.1X4.1mm, IPC Low Density)
pins: 1 NC, 2 FMXIP (in), 3 FMXIN (in), 4 RFGND (power), 5 RFREG (power), 6 FMO (out), 7 FMI (in), 8 WXI/NC, 9 AMI (in), 10 NC, 11 A0 (in), 12 INTB (out), 13 DCLK2 (in), 14 DOUT2 (out), 15 RSTB (in), 16 SDA (io), 17 SCL (in), 18 DFS2 (in), 19 VIO1 (power), 20 VD (power), 21 DBYP, 22 VIO2 (power), 23 IQCLK (out), 24 IQFS (out), 25 IOUT (out), 26 QOUT (out), 27 DIN (in), 28 DFS (in), 29 DCLK (in), 30 BLEND/NC (in), 31 VA (power), 32 LOUT/MPXOUT (out), 33 ROUT (out), 34 RCLK/XTAL2 (in), 35 XTAL1, 36 DACREF, 37 ICIP (in), 38 ICIN (in), 39 FMAGC2 (in), 40 FMAGC1 (in), 41 GND (power)

## Si4769-A10-AMR
designator U?
High-Performance Automotive AM / FM Radio Receiver and HD Radio Tuner, -40 to 85 degC, 40-pin QFN, Tape and Reel; Manufacturer: Silicon Labs; PartNumber: Si4769-A10-AMR; RDS Support: TRUE; Sub-Family: Automotive Tuners; PackageVersion: Rev. 1.3, 01/2012; PackageReference: QFN-40; PackageDescription: 40-Pin Quad-Flat No-Leads Package, Body 6 x 6 mm, Pitch 0.5 mm; Supplier 1: Digi-Key; Supplier Part Number 1: SI4769-A10-AMR-ND; Supplier 2: Mouser; Supplier Part Number 2: N/A; Packing: Tape and Reel; Mounting Technology: Surface Mount; Code_JEDEC: MO-220; Code_IPC: J-STD-020; ComponentLink1Description: Manufacturer URL; ComponentLink1URL: http://www.silabs.com/; ComponentLink2Description: Datasheet; ComponentLink2URL: http://www.silabs.com/Support Documents/TechnicalDocs/Si476x-short.pdf; ComponentLink3Description: Package Specification; ComponentLink3URL: http://www.silabs.com/Support%20Documents/TechnicalDocs/Si3452.pdf
footprint SLAB-QFN-40-4100x4100TP_A_N (QFN, 40-Leads, Body 6x6mm, Pitch 0.5mm, Thermal Pad 4.1X4.1mm, IPC Medium Density)
footprint SLAB-QFN-40-4100x4100TP_A_L (QFN, 40-Leads, Body 6x6mm, Pitch 0.5mm, Thermal Pad 4.1X4.1mm, IPC High Density)
footprint SLAB-QFN-40-4100x4100TP_A_M (QFN, 40-Leads, Body 6x6mm, Pitch 0.5mm, Thermal Pad 4.1X4.1mm, IPC Low Density)
pins: 1 NC, 2 FMXIP (in), 3 FMXIN (in), 4 RFGND (power), 5 RFREG (power), 6 FMO (out), 7 FMI (in), 8 WXI/NC, 9 AMI (in), 10 NC, 11 A0 (in), 12 INTB (out), 13 DCLK2 (in), 14 DOUT2 (out), 15 RSTB (in), 16 SDA (io), 17 SCL (in), 18 DFS2 (in), 19 VIO1 (power), 20 VD (power), 21 DBYP, 22 VIO2 (power), 23 IQCLK (out), 24 IQFS (out), 25 IOUT (out), 26 QOUT (out), 27 DIN (in), 28 DFS (in), 29 DCLK (in), 30 BLEND/NC (in), 31 VA (power), 32 LOUT/MPXOUT (out), 33 ROUT (out), 34 RCLK/XTAL2 (in), 35 XTAL1, 36 DACREF, 37 ICIP (in), 38 ICIN (in), 39 FMAGC2 (in), 40 FMAGC1 (in), 41 GND (power)

## Si4769-A10-GM
designator U?
High-Performance Automotive AM / FM Radio Receiver and HD Radio Tuner, -40 to 85 degC, 40-pin QFN, Tray; Manufacturer: Silicon Labs; PartNumber: Si4769-A10-GM; RDS Support: TRUE; Sub-Family: Automotive Tuners; PackageVersion: Rev. 1.3, 01/2012; PackageReference: QFN-40; PackageDescription: 40-Pin Quad-Flat No-Leads Package, Body 6 x 6 mm, Pitch 0.5 mm; Supplier 1: Digi-Key; Supplier Part Number 1: SI4769-A10-GM-ND; Supplier 2: Mouser; Supplier Part Number 2: N/A; Packing: Tray; Mounting Technology: Surface Mount; Code_JEDEC: MO-220; Code_IPC: J-STD-020; ComponentLink1Description: Manufacturer URL; ComponentLink1URL: http://www.silabs.com/; ComponentLink2Description: Datasheet; ComponentLink2URL: http://www.silabs.com/Support Documents/TechnicalDocs/Si476x-short.pdf; ComponentLink3Description: Package Specification; ComponentLink3URL: http://www.silabs.com/Support%20Documents/TechnicalDocs/Si3452.pdf
footprint SLAB-QFN-40-4100x4100TP_A_N (QFN, 40-Leads, Body 6x6mm, Pitch 0.5mm, Thermal Pad 4.1X4.1mm, IPC Medium Density)
footprint SLAB-QFN-40-4100x4100TP_A_L (QFN, 40-Leads, Body 6x6mm, Pitch 0.5mm, Thermal Pad 4.1X4.1mm, IPC High Density)
footprint SLAB-QFN-40-4100x4100TP_A_M (QFN, 40-Leads, Body 6x6mm, Pitch 0.5mm, Thermal Pad 4.1X4.1mm, IPC Low Density)
pins: 1 NC, 2 FMXIP (in), 3 FMXIN (in), 4 RFGND (power), 5 RFREG (power), 6 FMO (out), 7 FMI (in), 8 WXI/NC, 9 AMI (in), 10 NC, 11 A0 (in), 12 INTB (out), 13 DCLK2 (in), 14 DOUT2 (out), 15 RSTB (in), 16 SDA (io), 17 SCL (in), 18 DFS2 (in), 19 VIO1 (power), 20 VD (power), 21 DBYP, 22 VIO2 (power), 23 IQCLK (out), 24 IQFS (out), 25 IOUT (out), 26 QOUT (out), 27 DIN (in), 28 DFS (in), 29 DCLK (in), 30 BLEND/NC (in), 31 VA (power), 32 LOUT/MPXOUT (out), 33 ROUT (out), 34 RCLK/XTAL2 (in), 35 XTAL1, 36 DACREF, 37 ICIP (in), 38 ICIN (in), 39 FMAGC2 (in), 40 FMAGC1 (in), 41 GND (power)

## Si4769-A10-GMR
designator U?
High-Performance Automotive AM / FM Radio Receiver and HD Radio Tuner, -40 to 85 degC, 40-pin QFN, Tape and Reel; Manufacturer: Silicon Labs; PartNumber: Si4769-A10-GMR; RDS Support: TRUE; Sub-Family: Automotive Tuners; PackageVersion: Rev. 1.3, 01/2012; PackageReference: QFN-40; PackageDescription: 40-Pin Quad-Flat No-Leads Package, Body 6 x 6 mm, Pitch 0.5 mm; Supplier 1: Digi-Key; Supplier Part Number 1: SI4769-A10-GMR-ND; Supplier 2: Mouser; Supplier Part Number 2: N/A; Packing: Tape and Reel; Mounting Technology: Surface Mount; Code_JEDEC: MO-220; Code_IPC: J-STD-020; ComponentLink1Description: Manufacturer URL; ComponentLink1URL: http://www.silabs.com/; ComponentLink2Description: Datasheet; ComponentLink2URL: http://www.silabs.com/Support Documents/TechnicalDocs/Si476x-short.pdf; ComponentLink3Description: Package Specification; ComponentLink3URL: http://www.silabs.com/Support%20Documents/TechnicalDocs/Si3452.pdf
footprint SLAB-QFN-40-4100x4100TP_A_N (QFN, 40-Leads, Body 6x6mm, Pitch 0.5mm, Thermal Pad 4.1X4.1mm, IPC Medium Density)
footprint SLAB-QFN-40-4100x4100TP_A_L (QFN, 40-Leads, Body 6x6mm, Pitch 0.5mm, Thermal Pad 4.1X4.1mm, IPC High Density)
footprint SLAB-QFN-40-4100x4100TP_A_M (QFN, 40-Leads, Body 6x6mm, Pitch 0.5mm, Thermal Pad 4.1X4.1mm, IPC Low Density)
pins: 1 NC, 2 FMXIP (in), 3 FMXIN (in), 4 RFGND (power), 5 RFREG (power), 6 FMO (out), 7 FMI (in), 8 WXI/NC, 9 AMI (in), 10 NC, 11 A0 (in), 12 INTB (out), 13 DCLK2 (in), 14 DOUT2 (out), 15 RSTB (in), 16 SDA (io), 17 SCL (in), 18 DFS2 (in), 19 VIO1 (power), 20 VD (power), 21 DBYP, 22 VIO2 (power), 23 IQCLK (out), 24 IQFS (out), 25 IOUT (out), 26 QOUT (out), 27 DIN (in), 28 DFS (in), 29 DCLK (in), 30 BLEND/NC (in), 31 VA (power), 32 LOUT/MPXOUT (out), 33 ROUT (out), 34 RCLK/XTAL2 (in), 35 XTAL1, 36 DACREF, 37 ICIP (in), 38 ICIN (in), 39 FMAGC2 (in), 40 FMAGC1 (in), 41 GND (power)

## Si4769-A20-AM
designator U?
High-Performance Automotive AM / FM Radio Receiver and HD Radio Tuner, -40 to 85 degC, 40-pin QFN, Tray; Manufacturer: Silicon Labs; PartNumber: Si4769-A20-AM; RDS Support: TRUE; Sub-Family: Automotive Tuners; PackageVersion: Rev. 1.3, 01/2012; PackageReference: QFN-40; PackageDescription: 40-Pin Quad-Flat No-Leads Package, Body 6 x 6 mm, Pitch 0.5 mm; Supplier 1: Digi-Key; Supplier Part Number 1: SI4769-A20-AM-ND; Supplier 2: Mouser; Supplier Part Number 2: N/A; Packing: Tray; Mounting Technology: Surface Mount; Code_JEDEC: MO-220; Code_IPC: J-STD-020; ComponentLink1Description: Manufacturer URL; ComponentLink1URL: http://www.silabs.com/; ComponentLink2Description: Datasheet; ComponentLink2URL: http://www.silabs.com/Support Documents/TechnicalDocs/Si476x-short.pdf; ComponentLink3Description: Package Specification; ComponentLink3URL: http://www.silabs.com/Support%20Documents/TechnicalDocs/Si3452.pdf
footprint SLAB-QFN-40-4100x4100TP_A_N (QFN, 40-Leads, Body 6x6mm, Pitch 0.5mm, Thermal Pad 4.1X4.1mm, IPC Medium Density)
footprint SLAB-QFN-40-4100x4100TP_A_L (QFN, 40-Leads, Body 6x6mm, Pitch 0.5mm, Thermal Pad 4.1X4.1mm, IPC High Density)
footprint SLAB-QFN-40-4100x4100TP_A_M (QFN, 40-Leads, Body 6x6mm, Pitch 0.5mm, Thermal Pad 4.1X4.1mm, IPC Low Density)
pins: 1 NC, 2 FMXIP (in), 3 FMXIN (in), 4 RFGND (power), 5 RFREG (power), 6 FMO (out), 7 FMI (in), 8 WXI/NC, 9 AMI (in), 10 NC, 11 A0 (in), 12 INTB (out), 13 DCLK2 (in), 14 DOUT2 (out), 15 RSTB (in), 16 SDA (io), 17 SCL (in), 18 DFS2 (in), 19 VIO1 (power), 20 VD (power), 21 DBYP, 22 VIO2 (power), 23 IQCLK (out), 24 IQFS (out), 25 IOUT (out), 26 QOUT (out), 27 DIN (in), 28 DFS (in), 29 DCLK (in), 30 BLEND/NC (in), 31 VA (power), 32 LOUT/MPXOUT (out), 33 ROUT (out), 34 RCLK/XTAL2 (in), 35 XTAL1, 36 DACREF, 37 ICIP (in), 38 ICIN (in), 39 FMAGC2 (in), 40 FMAGC1 (in), 41 GND (power)

## Si4769-A20-AMR
designator U?
High-Performance Automotive AM / FM Radio Receiver and HD Radio Tuner, -40 to 85 degC, 40-pin QFN, Tape and Reel; Manufacturer: Silicon Labs; PartNumber: Si4769-A20-AMR; RDS Support: TRUE; Sub-Family: Automotive Tuners; PackageVersion: Rev. 1.3, 01/2012; PackageReference: QFN-40; PackageDescription: 40-Pin Quad-Flat No-Leads Package, Body 6 x 6 mm, Pitch 0.5 mm; Supplier 1: Digi-Key; Supplier Part Number 1: SI4769-A20-AMR-ND; Packing: Tape and Reel; Mounting Technology: Surface Mount; Code_JEDEC: MO-220; Code_IPC: J-STD-020; ComponentLink1Description: Manufacturer URL; ComponentLink1URL: http://www.silabs.com/; ComponentLink2Description: Datasheet; ComponentLink2URL: http://www.silabs.com/Support Documents/TechnicalDocs/Si476x-short.pdf; ComponentLink3Description: Package Specification; ComponentLink3URL: http://www.silabs.com/Support%20Documents/TechnicalDocs/Si3452.pdf
footprint SLAB-QFN-40-4100x4100TP_A_N (QFN, 40-Leads, Body 6x6mm, Pitch 0.5mm, Thermal Pad 4.1X4.1mm, IPC Medium Density)
footprint SLAB-QFN-40-4100x4100TP_A_L (QFN, 40-Leads, Body 6x6mm, Pitch 0.5mm, Thermal Pad 4.1X4.1mm, IPC High Density)
footprint SLAB-QFN-40-4100x4100TP_A_M (QFN, 40-Leads, Body 6x6mm, Pitch 0.5mm, Thermal Pad 4.1X4.1mm, IPC Low Density)
pins: 1 NC, 2 FMXIP (in), 3 FMXIN (in), 4 RFGND (power), 5 RFREG (power), 6 FMO (out), 7 FMI (in), 8 WXI/NC, 9 AMI (in), 10 NC, 11 A0 (in), 12 INTB (out), 13 DCLK2 (in), 14 DOUT2 (out), 15 RSTB (in), 16 SDA (io), 17 SCL (in), 18 DFS2 (in), 19 VIO1 (power), 20 VD (power), 21 DBYP, 22 VIO2 (power), 23 IQCLK (out), 24 IQFS (out), 25 IOUT (out), 26 QOUT (out), 27 DIN (in), 28 DFS (in), 29 DCLK (in), 30 BLEND/NC (in), 31 VA (power), 32 LOUT/MPXOUT (out), 33 ROUT (out), 34 RCLK/XTAL2 (in), 35 XTAL1, 36 DACREF, 37 ICIP (in), 38 ICIN (in), 39 FMAGC2 (in), 40 FMAGC1 (in), 41 GND (power)

## Si4769-A20-GM
designator U?
High-Performance Automotive AM / FM Radio Receiver and HD Radio Tuner, -40 to 85 degC, 40-pin QFN, Tray; Manufacturer: Silicon Labs; PartNumber: Si4769-A20-GM; RDS Support: TRUE; Sub-Family: Automotive Tuners; PackageVersion: Rev. 1.3, 01/2012; PackageReference: QFN-40; PackageDescription: 40-Pin Quad-Flat No-Leads Package, Body 6 x 6 mm, Pitch 0.5 mm; Supplier 1: Digi-Key; Supplier Part Number 1: SI4769-A20-GM-ND; Supplier 2: Mouser; Supplier Part Number 2: N/A; Packing: Tray; Mounting Technology: Surface Mount; Code_JEDEC: MO-220; Code_IPC: J-STD-020; ComponentLink1Description: Manufacturer URL; ComponentLink1URL: http://www.silabs.com/; ComponentLink2Description: Datasheet; ComponentLink2URL: http://www.silabs.com/Support Documents/TechnicalDocs/Si476x-short.pdf; ComponentLink3Description: Package Specification; ComponentLink3URL: http://www.silabs.com/Support%20Documents/TechnicalDocs/Si3452.pdf
footprint SLAB-QFN-40-4100x4100TP_A_N (QFN, 40-Leads, Body 6x6mm, Pitch 0.5mm, Thermal Pad 4.1X4.1mm, IPC Medium Density)
footprint SLAB-QFN-40-4100x4100TP_A_L (QFN, 40-Leads, Body 6x6mm, Pitch 0.5mm, Thermal Pad 4.1X4.1mm, IPC High Density)
footprint SLAB-QFN-40-4100x4100TP_A_M (QFN, 40-Leads, Body 6x6mm, Pitch 0.5mm, Thermal Pad 4.1X4.1mm, IPC Low Density)
pins: 1 NC, 2 FMXIP (in), 3 FMXIN (in), 4 RFGND (power), 5 RFREG (power), 6 FMO (out), 7 FMI (in), 8 WXI/NC, 9 AMI (in), 10 NC, 11 A0 (in), 12 INTB (out), 13 DCLK2 (in), 14 DOUT2 (out), 15 RSTB (in), 16 SDA (io), 17 SCL (in), 18 DFS2 (in), 19 VIO1 (power), 20 VD (power), 21 DBYP, 22 VIO2 (power), 23 IQCLK (out), 24 IQFS (out), 25 IOUT (out), 26 QOUT (out), 27 DIN (in), 28 DFS (in), 29 DCLK (in), 30 BLEND/NC (in), 31 VA (power), 32 LOUT/MPXOUT (out), 33 ROUT (out), 34 RCLK/XTAL2 (in), 35 XTAL1, 36 DACREF, 37 ICIP (in), 38 ICIN (in), 39 FMAGC2 (in), 40 FMAGC1 (in), 41 GND (power)

## Si4769-A20-GMR
designator U?
High-Performance Automotive AM / FM Radio Receiver and HD Radio Tuner, -40 to 85 degC, 40-pin QFN, Tape and Reel; Manufacturer: Silicon Labs; PartNumber: Si4769-A20-GMR; RDS Support: TRUE; Sub-Family: Automotive Tuners; PackageVersion: Rev. 1.3, 01/2012; PackageReference: QFN-40; PackageDescription: 40-Pin Quad-Flat No-Leads Package, Body 6 x 6 mm, Pitch 0.5 mm; Supplier 1: Digi-Key; Supplier Part Number 1: SI4769-A20-GMR-ND; Packing: Tape and Reel; Mounting Technology: Surface Mount; Code_JEDEC: MO-220; Code_IPC: J-STD-020; ComponentLink1Description: Manufacturer URL; ComponentLink1URL: http://www.silabs.com/; ComponentLink2Description: Datasheet; ComponentLink2URL: http://www.silabs.com/Support Documents/TechnicalDocs/Si476x-short.pdf; ComponentLink3Description: Package Specification; ComponentLink3URL: http://www.silabs.com/Support%20Documents/TechnicalDocs/Si3452.pdf
footprint SLAB-QFN-40-4100x4100TP_A_N (QFN, 40-Leads, Body 6x6mm, Pitch 0.5mm, Thermal Pad 4.1X4.1mm, IPC Medium Density)
footprint SLAB-QFN-40-4100x4100TP_A_L (QFN, 40-Leads, Body 6x6mm, Pitch 0.5mm, Thermal Pad 4.1X4.1mm, IPC High Density)
footprint SLAB-QFN-40-4100x4100TP_A_M (QFN, 40-Leads, Body 6x6mm, Pitch 0.5mm, Thermal Pad 4.1X4.1mm, IPC Low Density)
pins: 1 NC, 2 FMXIP (in), 3 FMXIN (in), 4 RFGND (power), 5 RFREG (power), 6 FMO (out), 7 FMI (in), 8 WXI/NC, 9 AMI (in), 10 NC, 11 A0 (in), 12 INTB (out), 13 DCLK2 (in), 14 DOUT2 (out), 15 RSTB (in), 16 SDA (io), 17 SCL (in), 18 DFS2 (in), 19 VIO1 (power), 20 VD (power), 21 DBYP, 22 VIO2 (power), 23 IQCLK (out), 24 IQFS (out), 25 IOUT (out), 26 QOUT (out), 27 DIN (in), 28 DFS (in), 29 DCLK (in), 30 BLEND/NC (in), 31 VA (power), 32 LOUT/MPXOUT (out), 33 ROUT (out), 34 RCLK/XTAL2 (in), 35 XTAL1, 36 DACREF, 37 ICIP (in), 38 ICIN (in), 39 FMAGC2 (in), 40 FMAGC1 (in), 41 GND (power)

## Si4770-A20-GM
designator U?
High-Performance Consumer Electronics Broadcast Radio Receiver and HD Radio Tuner, -40 to 85 degC, 40-pin QFN, Tray; Manufacturer: Silicon Labs; PartNumber: Si4770-A20-GM; RDS Support: TRUE; Sub-Family: AM/FM, Shortwave, Longwave, Weather Band Receivers; DatasheetVersion: Rev. 0.9; PackageVersion: Rev. 1.3, 01/2012; PackageReference: QFN-40; PackageDescription: 40-Pin Quad-Flat No-Leads Package, Body 6 x 6 mm, Pitch 0.5 mm; Supplier 1: Digi-Key; Supplier Part Number 1: 336-2268-ND; Supplier 2: Mouser; Supplier Part Number 2: 634-SI4770-A20-GM; Mounting Technology: Surface Mount; Code_JEDEC: MO-220; Code_IPC: J-STD-020; ComponentLink1Description: Manufacturer URL; ComponentLink1URL: http://www.silabs.com/; ComponentLink2Description: Datasheet; ComponentLink2URL: http://www.silabs.com/Support Documents/TechnicalDocs/Si4770-77-A20.pdf; ComponentLink3Description: Package Specification; ComponentLink3URL: http://www.silabs.com/Support%20Documents/TechnicalDocs/Si3452.pdf
footprint SLAB-QFN-40-4100x4100TP_A_N (QFN, 40-Leads, Body 6x6mm, Pitch 0.5mm, Thermal Pad 4.1X4.1mm, IPC Medium Density)
footprint SLAB-QFN-40-4100x4100TP_A_L (QFN, 40-Leads, Body 6x6mm, Pitch 0.5mm, Thermal Pad 4.1X4.1mm, IPC High Density)
footprint SLAB-QFN-40-4100x4100TP_A_M (QFN, 40-Leads, Body 6x6mm, Pitch 0.5mm, Thermal Pad 4.1X4.1mm, IPC Low Density)
part A pins: 2 FMXIP (in) "Balanced input to FM mixer (positive)", 3 FMXIN (in) "Balanced input to FM mixer (negative)", 4 RFGND (power) "RF Ground", 5 RFREG (power) "FM LNA regulator", 6 FMO (out) "FM LNA output", 7 FMI (in) "FM LNA input", 10 AMI (in) "AM single-ended input", 11 A0 (in) "I2C Address 0", 12 A1 (in) "I2C Address 1", 15 RSTB (in) "Global Chip Reset", 16 SDA (io) "I2C Data input/output", 17 SCL (in) "I2C clock", 18 INTB (out) "Interrupt, Active Low", 19 VIO1 (power) "Host I/O Supply Voltage (all pads except digital audio and I/Q)", 20 VD (power) "Digital Voltage Supply", 21 DBYP "Digital bypass to Ground", 22 VIO2 (power) "Digital audio and I/Q interface supply voltage", 27 DOUT (out) "Digital audio data output", 28 DFS (in) "Digital audio frame sync input", 29 DCLK (in) "Digital audio bit clock input", 31 VA (power) "Analog Voltage Supply", 32 LOUT/MPXOUT (out) "Left audio line out / FM MPX output", 33 ROUT (out) "Right audio line out", 34 XTAL2/RCLK (in) "Crystal oscillator input/Reference clock input", 35 XTAL1 "Crystal oscillator output", 36 DACREF "Voltage Reference for analog outputs", 37 GPIO2 (io) "General-purpose input/output", 38 GPIO1 (io) "General-purpose input/output", 39 FMAGC2 (in) "FM automatic gain control 2", 40 FMAGC1 (in) "FM automatic gain control 1", 41 GND (power) "Ground. Reference ground"
part B pins: 1 NC "No connect: Leave floating", 8 NC "No connect: Leave floating", 9 NC "No connect: Leave floating", 13 NC "No connect: Leave floating", 14 NC "No connect: Leave floating", 23 NC "No Connect: Leave floating (Si4770); ZIF I/Q bit clock output (Si4777)", 24 NC "No Connect: Leave floating (Si4770); ZIF I/Q frame sync output Si4777)", 25 NC "No Connect: Leave floating (Si4770); ZIF I data output (Si4777)", 26 NC "No Connect: Leave floating (Si4770); ZIF Q data output (Si4777)", 30 NC "No Connect: Leave floating"